# Altium footprint library LEDs.PcbLib: 8 footprints
Each footprint in its own frame and in the unit in brackets; x right, y up, seen from the top. Pads: shape width x height; smd on the part's side, far side on the other; paste and mask are expansions set on the pad; w line width, h text height; cw(c..) or ccw(c..) is an arc to the next point about the centre after c.
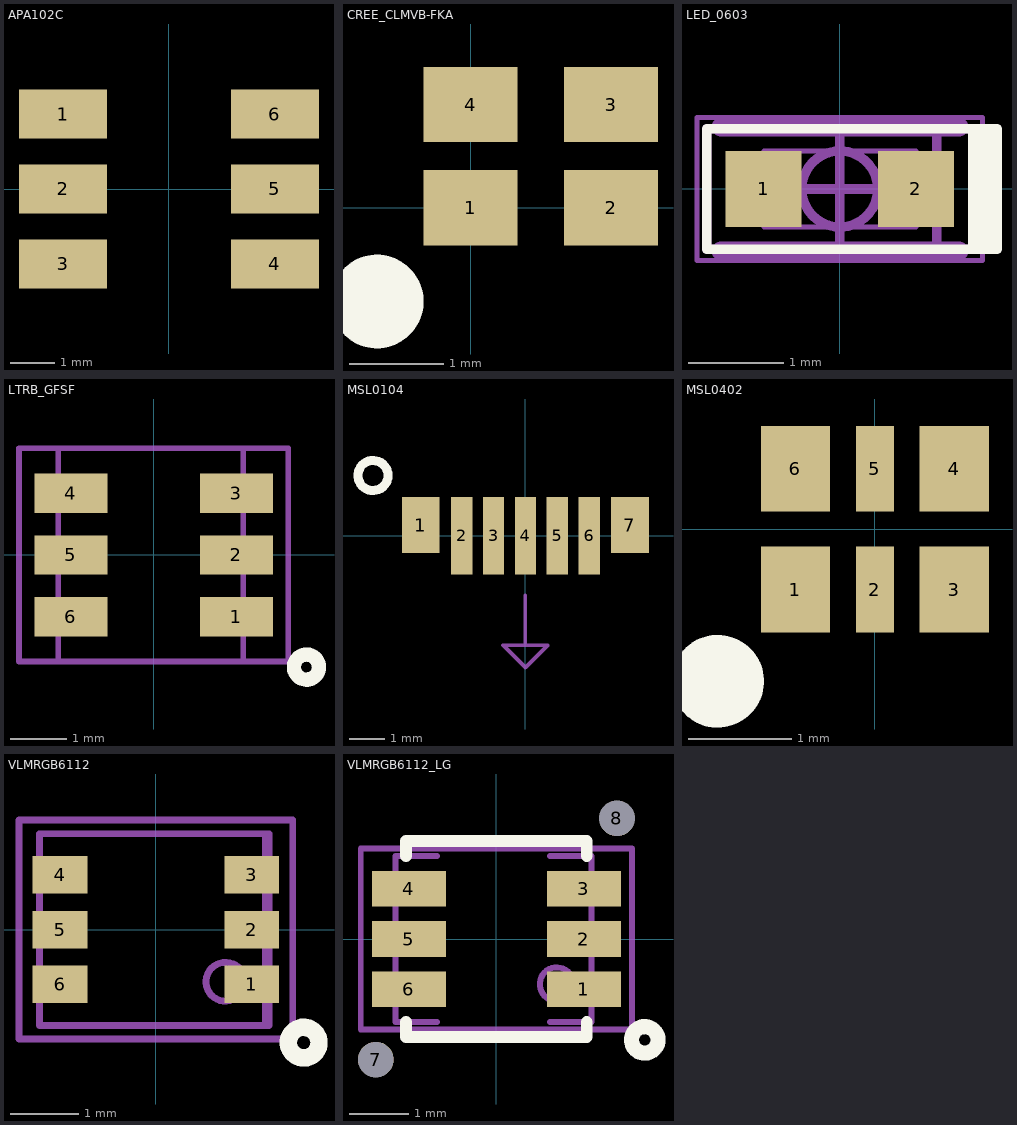
[diagram p0: the footprints below, top view; thin cyan lines are the x and y axes]

## APA102C [mm]
pads (6):
  rect 2x1.1 smd mask+0.051: 1(-2.4,1.7) 2(-2.4,0) 3(-2.4,-1.7) 4(2.4,-1.7) 5(2.4,0) 6(2.4,1.7)
3D body "smd Led 5050 v3.step": height 1.31, standoff 0.01, extent -2.55,-2.35 2.55,2.35

## CREE_CLMVB-FKA [mm] "Tiny RGB LED"
pads (4):
  rect 1x0.8 smd mask+0.03: 1(0,0) 2(1.5,0) 3(1.5,1.1) 4(0,1.1)
Top Overlay:
  circle w0.6: c-1,-1 r0.2

## LED_0603 [mm]
height 0.55
pads (2):
  rect 0.8x0.8 smd: 1(-0.8,0) 2(0.8,0)
Top Overlay:
  lines w0.1: 1.397,-0.635 1.651,-0.635 1.651,0.635 1.397,0.635 ; 1.397,-0.635 -1.397,-0.635 -1.397,0.635 1.397,0.635 ; 1.397,-0.635 1.397,0.635
  lines w0.254: 1.524,-0.508 1.524,0.508
Mechanical 2:
  lines w0.05: -0.5,-0.4 -0.5,0.4 ; 0.5,-0.4 0.5,0.4 ; -0.8,-0.4 -0.8,0 -0.8,0.4 0.8,0.4 0.8,-0.4 -0.8,-0.4
Mechanical 4:
  circle w0.1: c0,0 r0.4
  lines w0.05: -1.5,-0.75 -1.5,0.75 1.5,0.75 1.5,-0.75 -1.5,-0.75
  lines w0.1: -0.55,0 0.55,0 ; 0,-0.575 0,0.575
Mechanical 7:
  lines w0.1: 1.016,-0.635 1.016,0.635 ; -1.397,-0.635 -1.397,0.635 1.397,0.635 1.397,-0.635 -1.397,-0.635
  text ".Designator" at -1.016,-0.508 h1.5
Mechanical 13:
  lines w0.2: -1.25,-0.65 1.25,-0.65 ; -1.25,0.65 1.25,0.65
3D body: height 0.55, standoff 0, extent -0.8,-0.4 0.8,0.4

## LTRB_GFSF [mm] "OSRAM RGB LED"
pads (6):
  rect 1.3x0.7 smd mask+0.051: 1(1.475,-1.1) 2(1.475,0) 3(1.475,1.1) 4(-1.475,1.1) 5(-1.475,0) 6(-1.475,-1.1)
Top Overlay:
  circle w0.254: c2.725,-2 r0.224
Mechanical 2:
  lines w0.1: -1.7,-1.9 -1.7,1.9 1.6,1.9 1.6,-1.9 -1.7,-1.9
Mechanical 4:
  lines w0.1: -2.4,-1.9 2.4,-1.9 2.4,1.9 -2.4,1.9 -2.4,-1.9
Mechanical 7:
  lines w0.1: -1.7,-1.9 1.6,-1.9 1.6,1.9 -1.7,1.9 -1.7,-1.9
  text ".Designator" at 0.45,-5.1 h2.2
3D body: height 1.6, standoff 0, extent -1.5,-1.7 1.5,1.7

## MSL0104 [mm]
pads (7):
  rect 1.06x1.58 smd: 1(-2.95,0.3) 7(2.95,0.3)
  rect 0.6x2.18 smd: 2(-1.8,0) 3(-0.9,0) 4(0,0) 5(0.9,0) 6(1.8,0)
Top Overlay:
  circle w0.254: c-4.3,1.7 r0.424
Mechanical 1:
  lines w0.1: 0,-1.686 0,-3.083 ; 0,-3.083 -0.635,-3.083 0,-3.718 0.635,-3.083 0,-3.083
3D body: height 2.15, standoff 0, extent -3.2,-1.1 3.2,1.1

## MSL0402 [mm] "Tiny RGB LED"
pads (6):
  rect 0.67x0.83 smd mask+0.03: 1(-0.77,-0.585) 3(0.77,-0.585) 4(0.77,0.585) 6(-0.77,0.585)
  rect 0.37x0.83 smd mask+0.03: 2(0,-0.585) 5(0,0.585)
Top Overlay:
  circle w0.5: c-1.525,-1.475 r0.2
3D body: height 0.5, standoff 0, extent -0.9,-0.8 0.9,0.8

## VLMRGB6112 [mm]
height 1.43
pads (6):
  rect 0.8x0.55 smd mask+0.051: 1(1.4,-0.8) 2(1.4,0) 3(1.4,0.8) 4(-1.4,0.8) 5(-1.4,0) 6(-1.4,-0.8)
Top Overlay:
  circle w0.254: c2.159,-1.651 r0.224
Mechanical 2:
  lines w0.1: -1.7,-1.4 -1.7,1.4 1.6,1.4 1.6,-1.4 -1.7,-1.4
Mechanical 4:
  lines w0.1: -2,-1.6 2,-1.6 2,1.6 -2,1.6 -2,-1.6
Mechanical 7:
  circle w0.1: c1.016,-0.762 r0.284
  lines w0.1: -1,-1.4 -1.7,-1.4 -1.7,1.4 -1,1.4 ; 0.951,-1.4 1.651,-1.4 1.651,1.4 0.951,1.4
  text ".Designator" at 0.254,-0.635 h1.5
3D body: height 1.45, standoff 0, extent -1.6,-1.4 1.6,1.4

## VLMRGB6112_LG [mm]
height 12
pads (8):
  rect 1.25x0.6 smd mask+0.051: 1(1.475,-0.85) 2(1.475,0) 3(1.475,0.85) 4(-1.475,0.85) 5(-1.475,0) 6(-1.475,-0.85)
  round 0.6 hole 0.6 unplated paste+0 mask+0.2: 7(-2.032,-2.032) 8(2.032,2.032)
Top Overlay:
  circle w0.254: c2.5,-1.7 r0.224
  lines w0.2: -1.524,-1.397 -1.524,-1.651 1.524,-1.651 1.524,-1.397 ; -1.524,1.397 -1.524,1.651 1.524,1.651 1.524,1.397
Mechanical 4:
  lines w0.1: -2.286,-1.524 -2.286,1.524 2.286,1.524 2.286,-1.524 -2.286,-1.524
Mechanical 7:
  circle w0.1: c1.016,-0.762 r0.284
  lines w0.1: -1,-1.4 -1.7,-1.4 -1.7,1.4 -1,1.4 ; 0.9,-1.4 1.6,-1.4 1.6,1.4 0.9,1.4
  text ".Designator" at 0.381,-0.762 h2.2
3D body: height 1.45, standoff 0, extent -1.6,-1.4 1.6,1.4